# Altium schematic symbol library ERA-6AEB102V.SchLib: 1 symbol
Pins are listed as number, name and electrical type; pins without a type are passive.

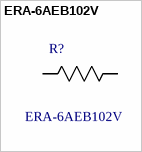
[diagram p0: symbol ERA-6AEB102V]

## ERA-6AEB102V
designator R?
Res Thin Film 0805 1K Ohm 0.1% 0.125W_1/8W_ Â±25ppm/C Molded SMD Automotive Punched T/R; MF: Panasonic; Package: 0805 Panasonic; MP: ERA-6AEB102V; Availability: Good; Price: 0.09 USD; SnapEDA_Link: https://www.snapeda.com/parts/ERA-6AEB102V/Panasonic%20Electronic%20Components/view-part/?ref=snap; Value: *
footprint RESC2013X65N
pins: 1 R1, 2 R2